# Altium integrated library WP7113SGD.IntLib: 1 symbol
Pins are listed as number, name and electrical type; pins without a type are passive.

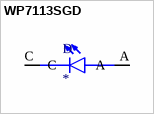
[diagram p0: symbol WP7113SGD]

## WP7113SGD
designator D
Green 568nm LED Indication - Discrete 2.2V Radial; MP: WP7113SGD; MF: Kingbright; Availability: Unavailable; SnapEDA_Link: https://www.snapeda.com/parts/WP7113SGD/Kingbright/view-part/564555/?ref=snap; Package: Radial Kingbright; Value: *; Price: None
footprint LED_WP7113SGD
pins: A, C